# EAGLE library part HMC2003 (library SFDC BASELINE LIBRARY)
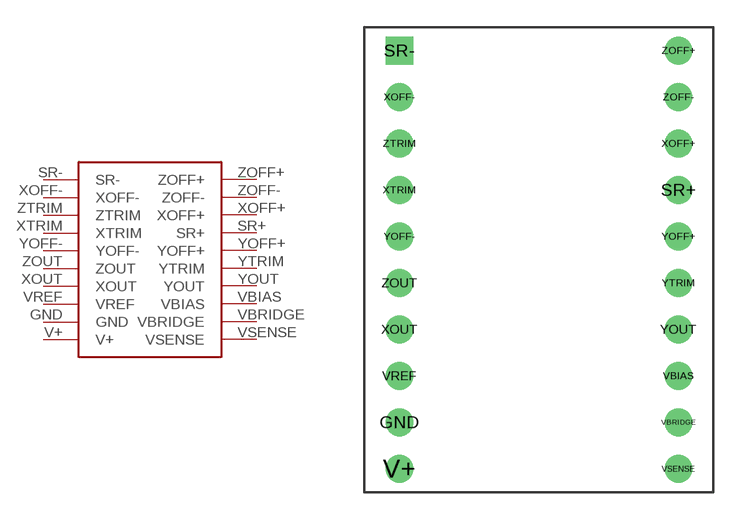
[diagram p1: symbol with the pads of HMC2003; footprint HMC2003]

Designator prefix HMC

## HMC2003  [HMC2003]
GND  GND
SR+  SR+
SR-  SR-
V+  V+
VBIAS  VBIAS
VBRIDGE  VBRIDGE
VREF  VREF
VSENSE  VSENSE
XOFF+  XOFF+
XOFF-  XOFF-
XOUT  XOUT
XTRIM  XTRIM
YOFF+  YOFF+
YOFF-  YOFF-
YOUT  YOUT
YTRIM  YTRIM
ZOFF+  ZOFF+
ZOFF-  ZOFF-
ZOUT  ZOUT
ZTRIM  ZTRIM

## Footprint HMC2003 (pad centres in mm)
drill 1: GND -7.62,-8.89; SR+ 7.62,3.81; V+ -7.62,-11.43; VBIAS 7.62,-6.35; VBRIDGE 7.62,-8.89; VREF -7.62,-6.35; VSENSE 7.62,-11.43; XOFF+ 7.62,6.35; XOFF- -7.62,8.89; XOUT -7.62,-3.81; XTRIM -7.62,3.81; YOFF+ 7.62,1.27; YOFF- -7.62,1.27; YOUT 7.62,-3.81; YTRIM 7.62,-1.27; ZOFF+ 7.62,11.43; ZOFF- 7.62,8.89; ZOUT -7.62,-1.27; ZTRIM -7.62,6.35
drill 1 square: SR- -7.62,11.43